# EAGLE library part MAX4208 (library Bauteile)
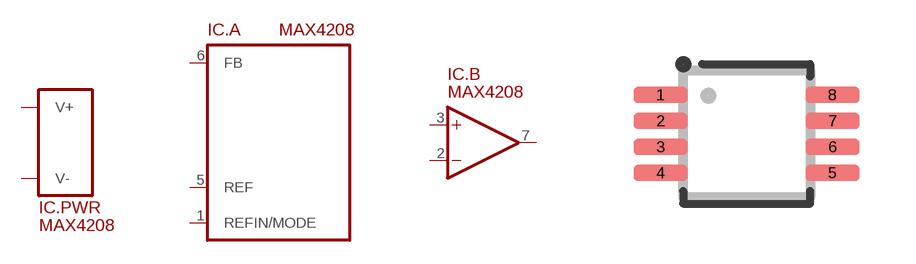
[diagram p94: symbol with the pads of µMAX8; footprint µMAX8]

Designator prefix IC; gates .PWR=SUPPLY_V+/V- .A=MAX4208 .B=OP

## MAX4208  [µMAX8]
1  .A:REFIN/MODE
2  .B:-IN
3  .B:+IN
4  .PWR:V-
5  .A:REF
6  .A:FB
7  .B:OUT
8  .PWR:V+

## Footprint µMAX8 (pad centres in mm)
smd 1.35 x 0.4: 1 -2.15,0.975; 2 -2.15,0.325; 3 -2.15,-0.325; 4 -2.15,-0.975; 5 2.15,-0.975; 6 2.15,-0.325; 7 2.15,0.325; 8 2.15,0.975